# Altium schematic symbol library WE-MPSB.SchLib: 23 symbols
Pins are listed as number, name and electrical type; pins without a type are passive.

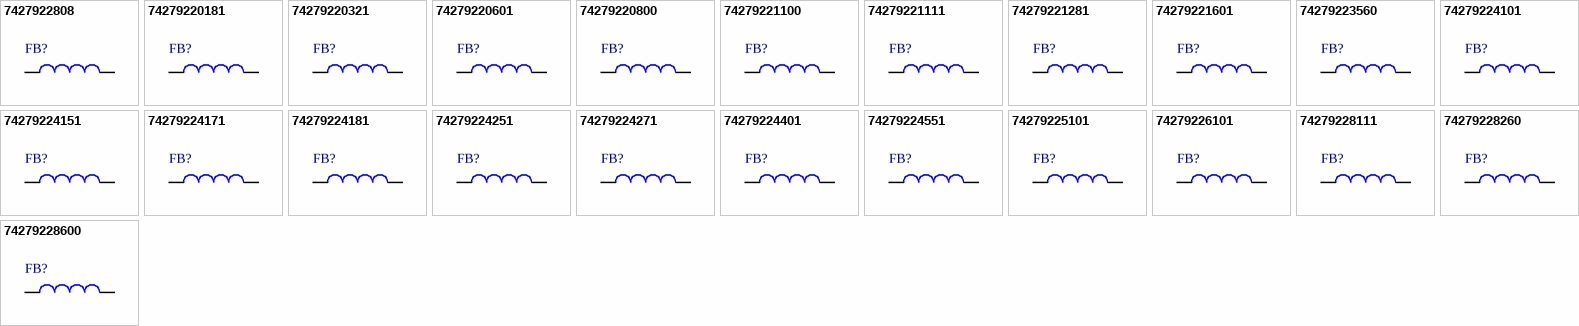
[diagram p0: symbols 7427922808 to 74279228600]

## 7427922808
designator FB?, comment 8Ω  (value not drawn)
WE-MPSB EMI Multilayer Power Suppression Bead, size 0603, 8Ω, 9.5A; Manufacturer Part Number: 7427922808; Manufacturer: Wurth Elektronik; Case/Size Code: 0603; DC Resistance: 2.5mΩ; Impedance @1GHz: 24Ω; Impedance Max: 25Ω; Impedance Max Test Condition: 1930MHz; Type: High Current; Category: Ferrites for PCB Assembly; Match Code: WE-MPSB; ComponentLink1Description: Website Link; ComponentLink1URL: https://www.we-online.com/redexpert/article/7427922808?ad; ComponentLink2Description: Datasheet Link; ComponentLink2URL: https://www.we-online.com/redexpert/spec/7427922808?ad; Mount: Surface Mount; Min Operating Temperature: -55°C; Max Operating Temperature: 125°C; Packaging: Tape and Reel; Length: 1.6mm; Width: 0.8mm; Height: 0.8mm; Impedance @100MHz: 8Ω; Rated Current: 9.5A
footprint WE-MPSB_0603
simulation model 0603_7427922808_8ohm
pins: 1, 2

## 74279220181
designator FB?, comment 180Ω  (value not drawn)
WE-MPSB EMI Multilayer Power Suppression Bead, size 0805, 180Ω, 3.1A; Manufacturer Part Number: 74279220181; Manufacturer: Wurth Elektronik; Case/Size Code: 0805; DC Resistance: 26.5mΩ; Impedance @1GHz: 61Ω; Impedance Max: 202Ω; Impedance Max Test Condition: 155MHz; Type: High Current; Category: Ferrites for PCB Assembly; Match Code: WE-MPSB; ComponentLink1Description: Website Link; ComponentLink1URL: https://www.we-online.com/redexpert/article/74279220181?ad; ComponentLink2Description: Datasheet Link; ComponentLink2URL: https://www.we-online.com/redexpert/spec/74279220181?ad; Mount: Surface Mount; Min Operating Temperature: -55°C; Max Operating Temperature: 125°C; Packaging: Tape and Reel; Length: 2mm; Width: 1.2mm; Height: 0.9mm; Impedance @100MHz: 180Ω; Rated Current: 3.1A
footprint WE-MPSB_0805
simulation model 0805_74279220181_180ohm
pins: 1, 2

## 74279220321
designator FB?, comment 320Ω  (value not drawn)
WE-MPSB EMI Multilayer Power Suppression Bead, size 0805, 320Ω, 2.5A; Manufacturer Part Number: 74279220321; Manufacturer: Wurth Elektronik; Case/Size Code: 0805; DC Resistance: 30.5mΩ; Impedance @1GHz: 108Ω; Impedance Max: 347Ω; Impedance Max Test Condition: 170MHz; Type: High Current; Category: Ferrites for PCB Assembly; Match Code: WE-MPSB; ComponentLink1Description: Website Link; ComponentLink1URL: https://www.we-online.com/redexpert/article/74279220321?ad; ComponentLink2Description: Datasheet Link; ComponentLink2URL: https://www.we-online.com/redexpert/spec/74279220321?ad; Mount: Surface Mount; Min Operating Temperature: -55°C; Max Operating Temperature: 125°C; Packaging: Tape and Reel; Length: 2mm; Width: 1.2mm; Height: 0.9mm; Impedance @100MHz: 320Ω; Rated Current: 2.5A
footprint WE-MPSB_0805
simulation model 0805_74279220321_320ohm
pins: 1, 2

## 74279220601
designator FB?, comment 600Ω  (value not drawn)
WE-MPSB EMI Multilayer Power Suppression Bead, size 0805, 600Ω, 2.1A; Manufacturer Part Number: 74279220601; Manufacturer: Wurth Elektronik; Case/Size Code: 0805; DC Resistance: 43mΩ; Impedance @1GHz: 103Ω; Impedance Max: 551Ω; Impedance Max Test Condition: 108MHz; Type: High Current; Category: Ferrites for PCB Assembly; Match Code: WE-MPSB; ComponentLink1Description: Website Link; ComponentLink1URL: https://www.we-online.com/redexpert/article/74279220601?ad; ComponentLink2Description: Datasheet Link; ComponentLink2URL: https://www.we-online.com/redexpert/spec/74279220601?ad; Mount: Surface Mount; Min Operating Temperature: -55°C; Max Operating Temperature: 125°C; Packaging: Tape and Reel; Length: 2mm; Width: 1.2mm; Height: 0.9mm; Impedance @100MHz: 600Ω; Rated Current: 2.1A
footprint WE-MPSB_0805
simulation model 0805_74279220601_600ohm
pins: 1, 2

## 74279220800
designator FB?, comment 80Ω  (value not drawn)
WE-MPSB EMI Multilayer Power Suppression Bead, size 0805, 80Ω, 4A; Manufacturer Part Number: 74279220800; Manufacturer: Wurth Elektronik; Case/Size Code: 0805; DC Resistance: 13mΩ; Impedance @1GHz: 113Ω; Impedance Max: 120Ω; Impedance Max Test Condition: 662MHz; Type: High Current; Category: Ferrites for PCB Assembly; Match Code: WE-MPSB; ComponentLink1Description: Website Link; ComponentLink1URL: https://www.we-online.com/redexpert/article/74279220800?ad; ComponentLink2Description: Datasheet Link; ComponentLink2URL: https://www.we-online.com/redexpert/spec/74279220800?ad; Mount: Surface Mount; Min Operating Temperature: -55°C; Max Operating Temperature: 125°C; Packaging: Tape and Reel; Length: 2mm; Width: 1.2mm; Height: 0.9mm; Impedance @100MHz: 80Ω; Rated Current: 4A
footprint WE-MPSB_0805
simulation model 0805_74279220800_80ohm
pins: 1, 2

## 74279221100
designator FB?, comment 10Ω  (value not drawn)
WE-MPSB EMI Multilayer Power Suppression Bead, size 1206, 10Ω, 10.5A; Manufacturer Part Number: 74279221100; Manufacturer: Wurth Elektronik; Case/Size Code: 1206; DC Resistance: 1mΩ; Impedance @1GHz: 28Ω; Impedance Max: 41Ω; Impedance Max Test Condition: 2178MHz; Type: High Current; Category: Ferrites for PCB Assembly; Match Code: WE-MPSB; ComponentLink1Description: Website Link; ComponentLink1URL: https://www.we-online.com/redexpert/article/74279221100?ad; ComponentLink2Description: Datasheet Link; ComponentLink2URL: https://www.we-online.com/redexpert/spec/74279221100?ad; Mount: Surface Mount; Min Operating Temperature: -55°C; Max Operating Temperature: 125°C; Packaging: Tape and Reel; Length: 3.2mm; Width: 1.6mm; Height: 1.1mm; Impedance @100MHz: 10Ω; Rated Current: 10.5A
footprint WE-MPSB_1206
simulation model 1206_74279221100_10ohm
pins: 1, 2

## 74279221111
designator FB?, comment 110Ω  (value not drawn)
WE-MPSB EMI Multilayer Power Suppression Bead, size 1206, 110Ω, 5.4A; Manufacturer Part Number: 74279221111; Manufacturer: Wurth Elektronik; Case/Size Code: 1206; DC Resistance: 9.5mΩ; Impedance @1GHz: 44Ω; Impedance Max: 118Ω; Impedance Max Test Condition: 150MHz; Type: High Current; Category: Ferrites for PCB Assembly; Match Code: WE-MPSB; ComponentLink1Description: Website Link; ComponentLink1URL: https://www.we-online.com/redexpert/article/74279221111?ad; ComponentLink2Description: Datasheet Link; ComponentLink2URL: https://www.we-online.com/redexpert/spec/74279221111?ad; Mount: Surface Mount; Min Operating Temperature: -55°C; Max Operating Temperature: 125°C; Packaging: Tape and Reel; Length: 3.2mm; Width: 1.6mm; Height: 1.1mm; Impedance @100MHz: 110Ω; Rated Current: 5.4A
footprint WE-MPSB_1206
simulation model 1206_74279221111_110ohm
pins: 1, 2

## 74279221281
designator FB?, comment 280Ω  (value not drawn)
WE-MPSB EMI Multilayer Power Suppression Bead, size 1206, 280Ω, 3.5A; Manufacturer Part Number: 74279221281; Manufacturer: Wurth Elektronik; Case/Size Code: 1206; DC Resistance: 22mΩ; Impedance @1GHz: 82Ω; Impedance Max: 288Ω; Impedance Max Test Condition: 125MHz; Type: High Current; Category: Ferrites for PCB Assembly; Match Code: WE-MPSB; ComponentLink1Description: Website Link; ComponentLink1URL: https://www.we-online.com/redexpert/article/74279221281?ad; ComponentLink2Description: Datasheet Link; ComponentLink2URL: https://www.we-online.com/redexpert/spec/74279221281?ad; Mount: Surface Mount; Min Operating Temperature: -55°C; Max Operating Temperature: 125°C; Packaging: Tape and Reel; Length: 3.2mm; Width: 1.6mm; Height: 1.1mm; Impedance @100MHz: 280Ω; Rated Current: 3.5A
footprint WE-MPSB_1206
simulation model 1206_74279221281_280ohm
pins: 1, 2

## 74279221601
designator FB?, comment 600Ω  (value not drawn)
WE-MPSB EMI Multilayer Power Suppression Bead, size 1206, 600Ω, 2.5A; Manufacturer Part Number: 74279221601; Manufacturer: Wurth Elektronik; Case/Size Code: 1206; DC Resistance: 38mΩ; Impedance @1GHz: 84Ω; Impedance Max: 610Ω; Impedance Max Test Condition: 83MHz; Type: High Current; Category: Ferrites for PCB Assembly; Match Code: WE-MPSB; ComponentLink1Description: Website Link; ComponentLink1URL: https://www.we-online.com/redexpert/article/74279221601?ad; ComponentLink2Description: Datasheet Link; ComponentLink2URL: https://www.we-online.com/redexpert/spec/74279221601?ad; Mount: Surface Mount; Min Operating Temperature: -55°C; Max Operating Temperature: 125°C; Packaging: Tape and Reel; Length: 3.2mm; Width: 1.6mm; Height: 1.1mm; Impedance @100MHz: 600Ω; Rated Current: 2.5A
footprint WE-MPSB_1206
simulation model 1206_74279221601_600ohm
pins: 1, 2

## 74279223560
designator FB?, comment 56Ω  (value not drawn)
WE-MPSB EMI Multilayer Power Suppression Bead, size 1612, 56Ω, 10A; Manufacturer Part Number: 74279223560; Manufacturer: Wurth Elektronik; Case/Size Code: 1612; DC Resistance: 2.5mΩ; Impedance @1GHz: 90Ω; Impedance Max Test Condition: 1000MHz; Type: High Current; Category: Ferrites for PCB Assembly; Match Code: WE-MPSB; ComponentLink1Description: Website Link; ComponentLink1URL: https://www.we-online.com/redexpert/article/74279223560?ad; ComponentLink2Description: Datasheet Link; ComponentLink2URL: https://www.we-online.com/redexpert/spec/74279223560?ad; Mount: Surface Mount; Min Operating Temperature: -55°C; Max Operating Temperature: 125°C; Packaging: Tape and Reel; Length: 4.06mm; Width: 3.05mm; Height: 2.28mm; Impedance @100MHz: 56Ω; Impedance Max: 90Ω; Rated Current: 10A
footprint WE-MPSB_1612
simulation model 1612_74279223560_56ohm
pins: 1, 2

## 74279224101
designator FB?, comment 100Ω  (value not drawn)
WE-MPSB EMI Multilayer Power Suppression Bead, size 2220, 100Ω, 7A; Manufacturer Part Number: 74279224101; Manufacturer: Wurth Elektronik; Case/Size Code: 2220; DC Resistance: 3.5mΩ; Impedance @1GHz: 160Ω; Impedance Max Test Condition: 1000MHz; Type: High Current; Category: Ferrites for PCB Assembly; Match Code: WE-MPSB; ComponentLink1Description: Website Link; ComponentLink1URL: https://www.we-online.com/redexpert/article/74279224101?ad; ComponentLink2Description: Datasheet Link; ComponentLink2URL: https://www.we-online.com/redexpert/spec/74279224101?ad; Mount: Surface Mount; Min Operating Temperature: -55°C; Max Operating Temperature: 125°C; Packaging: Tape and Reel; Length: 5.6mm; Width: 5.1mm; Height: 1.8mm; Impedance @100MHz: 100Ω; Impedance Max: 160Ω; Rated Current: 7A
footprint WE-MPSB_2220_H1.8
simulation model 2220_74279224101_100ohm
pins: 1, 2

## 74279224151
designator FB?, comment 150Ω  (value not drawn)
WE-MPSB EMI Multilayer Power Suppression Bead, size 2220, 150Ω, 5A; Manufacturer Part Number: 74279224151; Manufacturer: Wurth Elektronik; Case/Size Code: 2220; DC Resistance: 7mΩ; Impedance @1GHz: 198Ω; Impedance Max: 230Ω; Impedance Max Test Condition: 700MHz; Type: High Current; Category: Ferrites for PCB Assembly; Match Code: WE-MPSB; ComponentLink1Description: Website Link; ComponentLink1URL: https://www.we-online.com/redexpert/article/74279224151?ad; ComponentLink2Description: Datasheet Link; ComponentLink2URL: https://www.we-online.com/redexpert/spec/74279224151?ad; Mount: Surface Mount; Min Operating Temperature: -55°C; Max Operating Temperature: 125°C; Packaging: Tape and Reel; Length: 5.6mm; Width: 5.1mm; Height: 1.8mm; Impedance @100MHz: 150Ω; Rated Current: 5A
footprint WE-MPSB_2220_H1.8
simulation model 2220_74279224151_150ohm
pins: 1, 2

## 74279224171
designator FB?, comment 170Ω  (value not drawn)
WE-MPSB EMI Multilayer Power Suppression Bead, size 2220, 170Ω, 4A; Manufacturer Part Number: 74279224171; Manufacturer: Wurth Elektronik; Case/Size Code: 2220; DC Resistance: 11mΩ; Impedance @1GHz: 253Ω; Impedance Max: 280Ω; Impedance Max Test Condition: 700MHz; Type: High Current; Category: Ferrites for PCB Assembly; Match Code: WE-MPSB; ComponentLink1Description: Website Link; ComponentLink1URL: https://www.we-online.com/redexpert/article/74279224171?ad; ComponentLink2Description: Datasheet Link; ComponentLink2URL: https://www.we-online.com/redexpert/spec/74279224171?ad; Mount: Surface Mount; Min Operating Temperature: -55°C; Max Operating Temperature: 125°C; Packaging: Tape and Reel; Length: 5.6mm; Width: 5.1mm; Height: 1.5mm; Impedance @100MHz: 170Ω; Rated Current: 4A
footprint WE-MPSB_2220_H1.5
simulation model 2220_74279224171_170ohm
pins: 1, 2

## 74279224181
designator FB?, comment 180Ω  (value not drawn)
WE-MPSB EMI Multilayer Power Suppression Bead, size 2220, 180Ω, 5A; Manufacturer Part Number: 74279224181; Manufacturer: Wurth Elektronik; Case/Size Code: 2220; DC Resistance: 7.5mΩ; Impedance @1GHz: 223Ω; Impedance Max: 240Ω; Impedance Max Test Condition: 600MHz; Type: High Current; Category: Ferrites for PCB Assembly; Match Code: WE-MPSB; ComponentLink1Description: Website Link; ComponentLink1URL: https://www.we-online.com/redexpert/article/74279224181?ad; ComponentLink2Description: Datasheet Link; ComponentLink2URL: https://www.we-online.com/redexpert/spec/74279224181?ad; Mount: Surface Mount; Min Operating Temperature: -55°C; Max Operating Temperature: 125°C; Packaging: Tape and Reel; Length: 5.6mm; Width: 5.1mm; Height: 1.8mm; Impedance @100MHz: 180Ω; Rated Current: 5A
footprint WE-MPSB_2220_H1.8
simulation model 2220_74279224181_180ohm
pins: 1, 2

## 74279224251
designator FB?, comment 250Ω  (value not drawn)
WE-MPSB EMI Multilayer Power Suppression Bead, size 2220, 250Ω, 4A; Manufacturer Part Number: 74279224251; Manufacturer: Wurth Elektronik; Case/Size Code: 2220; DC Resistance: 8.5mΩ; Impedance @1GHz: 101Ω; Impedance Max: 300Ω; Impedance Max Test Condition: 150MHz; Type: High Current; Category: Ferrites for PCB Assembly; Match Code: WE-MPSB; ComponentLink1Description: Website Link; ComponentLink1URL: https://www.we-online.com/redexpert/article/74279224251?ad; ComponentLink2Description: Datasheet Link; ComponentLink2URL: https://www.we-online.com/redexpert/spec/74279224251?ad; Mount: Surface Mount; Min Operating Temperature: -55°C; Max Operating Temperature: 125°C; Packaging: Tape and Reel; Length: 5.6mm; Width: 5.1mm; Height: 1.8mm; Impedance @100MHz: 250Ω; Rated Current: 4A
footprint WE-MPSB_2220_H1.8
simulation model 2220_74279224251_250ohm
pins: 1, 2

## 74279224271
designator FB?, comment 270Ω  (value not drawn)
WE-MPSB EMI Multilayer Power Suppression Bead, size 2220, 270Ω, 4A; Manufacturer Part Number: 74279224271; Manufacturer: Wurth Elektronik; Case/Size Code: 2220; DC Resistance: 10mΩ; Impedance @1GHz: 202Ω; Impedance Max: 350Ω; Impedance Max Test Condition: 300MHz; Type: High Current; Category: Ferrites for PCB Assembly; Match Code: WE-MPSB; ComponentLink1Description: Website Link; ComponentLink1URL: https://www.we-online.com/redexpert/article/74279224271?ad; ComponentLink2Description: Datasheet Link; ComponentLink2URL: https://www.we-online.com/redexpert/spec/74279224271?ad; Mount: Surface Mount; Min Operating Temperature: -55°C; Max Operating Temperature: 125°C; Packaging: Tape and Reel; Length: 5.6mm; Width: 5.1mm; Height: 3.2mm; Impedance @100MHz: 270Ω; Rated Current: 4A
footprint WE-MPSB_2220_H3.2
simulation model 2220_74279224271_270ohm
pins: 1, 2

## 74279224401
designator FB?, comment 400Ω  (value not drawn)
WE-MPSB EMI Multilayer Power Suppression Bead, size 2220, 400Ω, 4.5A; Manufacturer Part Number: 74279224401; Manufacturer: Wurth Elektronik; Case/Size Code: 2220; DC Resistance: 15mΩ; Impedance @1GHz: 108Ω; Impedance Max: 460Ω; Impedance Max Test Condition: 110MHz; Type: High Current; Category: Ferrites for PCB Assembly; Match Code: WE-MPSB; ComponentLink1Description: Website Link; ComponentLink1URL: https://www.we-online.com/redexpert/article/74279224401?ad; ComponentLink2Description: Datasheet Link; ComponentLink2URL: https://www.we-online.com/redexpert/spec/74279224401?ad; Mount: Surface Mount; Min Operating Temperature: -55°C; Max Operating Temperature: 125°C; Packaging: Tape and Reel; Length: 5.6mm; Width: 5.1mm; Height: 3.2mm; Impedance @100MHz: 400Ω; Rated Current: 4.5A
footprint WE-MPSB_2220_H3.2
simulation model 2220_74279224401_400ohm
pins: 1, 2

## 74279224551
designator FB?, comment 550Ω  (value not drawn)
WE-MPSB EMI Multilayer Power Suppression Bead, size 2220, 550Ω, 4A; Manufacturer Part Number: 74279224551; Manufacturer: Wurth Elektronik; Case/Size Code: 2220; DC Resistance: 28mΩ; Impedance @1GHz: 244Ω; Impedance Max: 660Ω; Impedance Max Test Condition: 300MHz; Type: High Current; Category: Ferrites for PCB Assembly; Match Code: WE-MPSB; ComponentLink1Description: Website Link; ComponentLink1URL: https://www.we-online.com/redexpert/article/74279224551?ad; ComponentLink2Description: Datasheet Link; ComponentLink2URL: https://www.we-online.com/redexpert/spec/74279224551?ad; Mount: Surface Mount; Min Operating Temperature: -55°C; Max Operating Temperature: 125°C; Packaging: Tape and Reel; Length: 5.6mm; Width: 5.1mm; Height: 2mm; Impedance @100MHz: 550Ω; Rated Current: 4A
footprint WE-MPSB_2220_H2
simulation model 2220_74279224551_550ohm
pins: 1, 2

## 74279225101
designator FB?, comment 100Ω  (value not drawn)
WE-MPSB EMI Multilayer Power Suppression Bead, size 3312, 100Ω, 10A; Manufacturer Part Number: 74279225101; Manufacturer: Wurth Elektronik; Case/Size Code: 3312; DC Resistance: 3mΩ; Impedance @1GHz: 169Ω; Impedance Max: 160Ω; Impedance Max Test Condition: 1200MHz; Type: High Current; Category: Ferrites for PCB Assembly; Match Code: WE-MPSB; ComponentLink1Description: Website Link; ComponentLink1URL: https://www.we-online.com/redexpert/article/74279225101?ad; ComponentLink2Description: Datasheet Link; ComponentLink2URL: https://www.we-online.com/redexpert/spec/74279225101?ad; Mount: Surface Mount; Min Operating Temperature: -55°C; Max Operating Temperature: 125°C; Packaging: Tape and Reel; Length: 8.5mm; Width: 3mm; Height: 2.3mm; Impedance @100MHz: 100Ω; Rated Current: 10A
footprint WE-MPSB_3312
simulation model 3312_74279225101_100ohm
pins: 1, 2

## 74279226101
designator FB?, comment 100Ω  (value not drawn)
WE-MPSB EMI Multilayer Power Suppression Bead, size 1812, 100Ω, 8A; Manufacturer Part Number: 74279226101; Manufacturer: Wurth Elektronik; Case/Size Code: 1812; DC Resistance: 4.5mΩ; Impedance @1GHz: 150Ω; Impedance Max: 160Ω; Impedance Max Test Condition: 1100MHz; Type: High Current; Category: Ferrites for PCB Assembly; Match Code: WE-MPSB; ComponentLink1Description: Website Link; ComponentLink1URL: https://www.we-online.com/redexpert/article/74279226101?ad; ComponentLink2Description: Datasheet Link; ComponentLink2URL: https://www.we-online.com/redexpert/spec/74279226101?ad; Mount: Surface Mount; Min Operating Temperature: -55°C; Max Operating Temperature: 125°C; Packaging: Tape and Reel; Length: 4.5mm; Width: 3.2mm; Height: 2.3mm; Impedance @100MHz: 100Ω; Rated Current: 8A
footprint WE-MPSB_1812
simulation model 1812_74279226101_100ohm
pins: 1, 2

## 74279228111
designator FB?, comment 110Ω  (value not drawn)
WE-MPSB EMI Multilayer Power Suppression Bead, size 0603, 110Ω, 4.1A; Manufacturer Part Number: 74279228111; Manufacturer: Wurth Elektronik; Case/Size Code: 0603; DC Resistance: 14.5mΩ; Impedance @1GHz: 48Ω; Impedance Max: 135Ω; Impedance Max Test Condition: 226MHz; Type: High Current; Category: Ferrites for PCB Assembly; Match Code: WE-MPSB; ComponentLink1Description: Website Link; ComponentLink1URL: https://www.we-online.com/redexpert/article/74279228111?ad; ComponentLink2Description: Datasheet Link; ComponentLink2URL: https://www.we-online.com/redexpert/spec/74279228111?ad; Mount: Surface Mount; Min Operating Temperature: -55°C; Max Operating Temperature: 125°C; Packaging: Tape and Reel; Length: 1.6mm; Width: 0.8mm; Height: 0.8mm; Impedance @100MHz: 110Ω; Rated Current: 4.1A
footprint WE-MPSB_0603
simulation model 0603_74279228111_110ohm
pins: 1, 2

## 74279228260
designator FB?, comment 26Ω  (value not drawn)
WE-MPSB EMI Multilayer Power Suppression Bead, size 0603, 26Ω, 6.5A; Manufacturer Part Number: 74279228260; Manufacturer: Wurth Elektronik; Case/Size Code: 0603; DC Resistance: 5mΩ; Impedance @1GHz: 33Ω; Impedance Max: 39Ω; Impedance Max Test Condition: 515MHz; Type: High Current; Category: Ferrites for PCB Assembly; Match Code: WE-MPSB; ComponentLink1Description: Website Link; ComponentLink1URL: https://www.we-online.com/redexpert/article/74279228260?ad; ComponentLink2Description: Datasheet Link; ComponentLink2URL: https://www.we-online.com/redexpert/spec/74279228260?ad; Mount: Surface Mount; Min Operating Temperature: -55°C; Max Operating Temperature: 125°C; Packaging: Tape and Reel; Length: 1.6mm; Width: 0.8mm; Height: 0.8mm; Impedance @100MHz: 26Ω; Rated Current: 6.5A
footprint WE-MPSB_0603
simulation model 0603_74279228260_26ohm
pins: 1, 2

## 74279228600
designator FB?, comment 60Ω  (value not drawn)
WE-MPSB EMI Multilayer Power Suppression Bead, size 0603, 60Ω, 5.1A; Manufacturer Part Number: 74279228600; Manufacturer: Wurth Elektronik; Case/Size Code: 0603; DC Resistance: 8.5mΩ; Impedance @1GHz: 74Ω; Impedance Max: 99Ω; Impedance Max Test Condition: 458MHz; Type: High Current; Category: Ferrites for PCB Assembly; Match Code: WE-MPSB; ComponentLink1Description: Website Link; ComponentLink1URL: https://www.we-online.com/redexpert/article/74279228600?ad; ComponentLink2Description: Datasheet Link; ComponentLink2URL: https://www.we-online.com/redexpert/spec/74279228600?ad; Mount: Surface Mount; Min Operating Temperature: -55°C; Max Operating Temperature: 125°C; Packaging: Tape and Reel; Length: 1.6mm; Width: 0.8mm; Height: 0.8mm; Impedance @100MHz: 60Ω; Rated Current: 5.1A
footprint WE-MPSB_0603
simulation model 0603_74279228600_60ohm
pins: 1, 2